# Altium schematic symbol library Max_lib.SchLib: 44 symbols
Pins are listed as number, name and electrical type; pins without a type are passive.

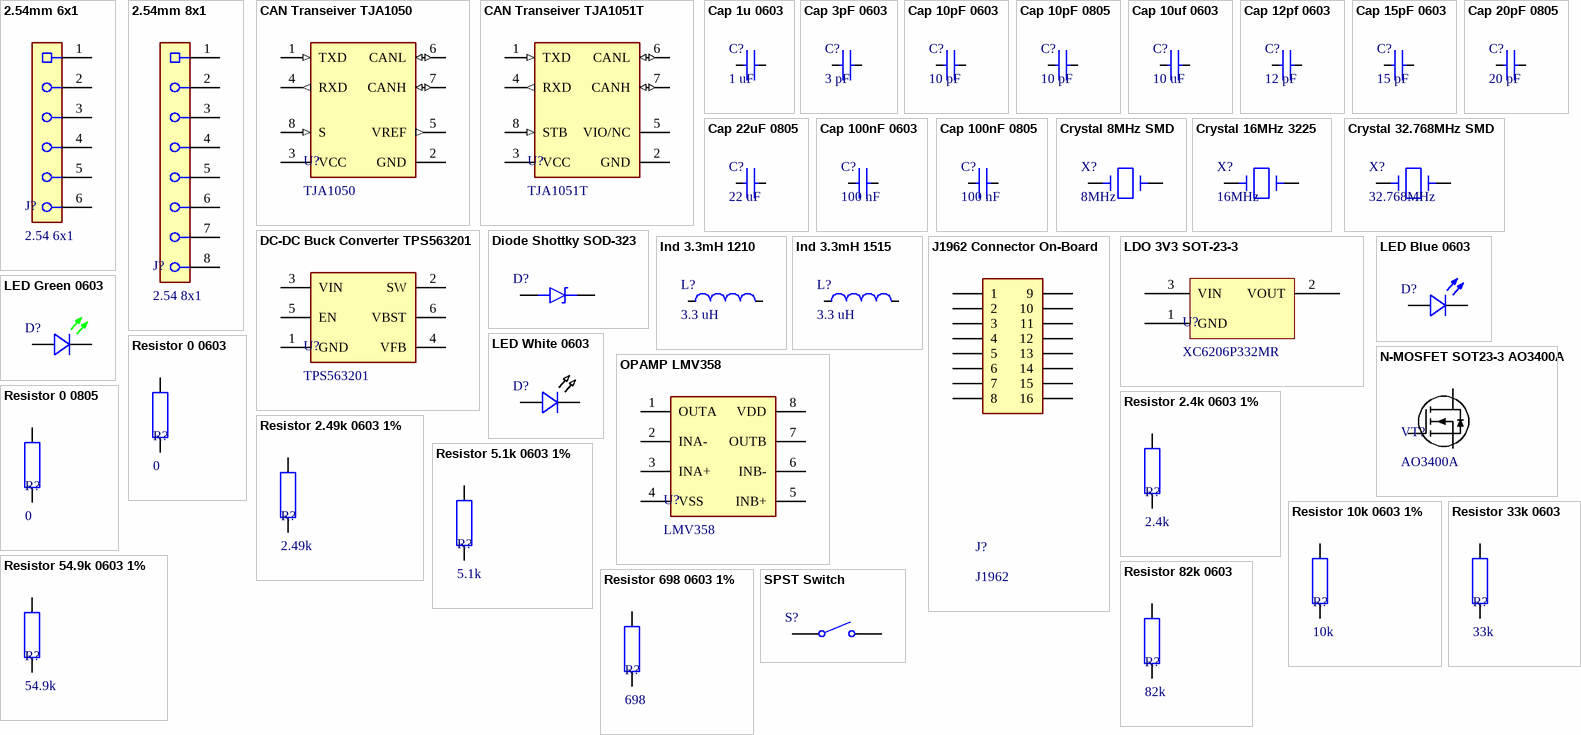
[diagram p0: symbols 2.54mm 6x1 to SPST Switch]

## 2.54mm 6x1
designator J?, comment 2.54 6x1
footprint PLS-6x1
pins: 1, 2, 3, 4, 5, 6

## 2.54mm 8x1
designator J?, comment 2.54 8x1
footprint PLS-8X1
pins: 1, 2, 3, 4, 5, 6, 7, 8

## CAN Transeiver TJA1050
designator U?, comment TJA1050
TJA1050 CAN Transeiver up to 1 Mbaud/s; Part Number: TJA1050T/CM,118; ComponentLink1Description: Datasheet; ComponentLink1URL: https://datasheet.lcsc.com/lcsc/1809201810_NXP-Semicon-TJA1050T-CM-118_C6952.pdf
footprint SOIC-8
pins: 1 TXD (in), 2 GND (power), 3 VCC (power), 4 RXD (out), 5 VREF (out), 6 CANL (io), 7 CANH (io), 8 S (in)

## CAN Transeiver TJA1051T
designator U?, comment TJA1051T
TJA1051T CAN Transeiver up to 5 Mbaud/s; Part Number: TJA1051T,118; ComponentLink1Description: Datasheet; ComponentLink1URL: https://datasheet.lcsc.com/lcsc/1809192316_NXP-Semicon-TJA1051T-118_C18387.pdf
footprint SOIC-8
pins: 1 TXD (in), 2 GND (power), 3 VCC (power), 4 RXD (out), 5 VIO/NC, 6 CANL (io), 7 CANH (io), 8 STB (in)

## Cap 1u 0603
designator C?, comment 1 uF
25V 1uF X5R ±10% 0603 Multilayer Ceramic Capacitors MLCC; Part Number: CC0603KRX5R8BB105
footprint 0603 SMD CAP
pins: 1, 2

## Cap 3pF 0603
designator C?, comment 3 pF
50V 3pF NP0 0.25pF 0603 Multilayer Ceramic Capacitors MLCC; Part Number: CC0603JRNPO9BN100
footprint 0603 SMD CAP
pins: 1, 2

## Cap 10pF 0603
designator C?, comment 10 pF
50V 10pF NP0 ±5% 0603 Multilayer Ceramic Capacitors MLCC; Part Number: CC0603JRNPO9BN100
footprint 0603 SMD CAP
pins: 1, 2

## Cap 10pF 0805
designator C?, comment 10 pF
Part Number: CC0805JRNPO9BN100
footprint 0805 SMD Cap
pins: 1, 2

## Cap 10uf 0603
designator C?, comment 10 uF
25V 10uF X5R ±20% 0603 Multilayer Ceramic Capacitors; Part Number: CL10A106MA8NRNC
footprint 0603 SMD CAP
pins: 1, 2

## Cap 12pf 0603
designator C?, comment 12 pF
Part Number: CC0603JRNPO9BN120
footprint 0603 SMD CAP
pins: 1, 2

## Cap 15pF 0603
designator C?, comment 15 pF
50V 15pF NP0 ±5% 0603 Multilayer Ceramic Capacitors MLCC; Part Number: CC0603JRNPO9BN100
footprint 0603 SMD CAP
pins: 1, 2

## Cap 20pF 0805
designator C?, comment 20 pF
Part Number: CC0805FRNPO9BN200
footprint 0805 SMD Cap
pins: 1, 2

## Cap 22uF 0805
designator C?, comment 22 uF
25V 22uF X5R ±20% 0805 Multilayer Ceramic Capacitors; Part Number: CL21A226MAYNNNE
footprint 0805 SMD Cap
pins: 1, 2

## Cap 100nF 0603
designator C?, comment 100 nF
25V 100nF X7R ±10% 0603 Multilayer Ceramic Capacitors MLCC; Part Number: CL10B104KA8NNNC; ComponentLink1Description: LCSC; ComponentLink1URL: https://lcsc.com/product-detail/Multilayer-Ceramic-Capacitors-MLCC-SMD-SMT_Samsung-Electro-Mechanics-CL10B104KA8NNNC_C1590.html
footprint 0603 SMD CAP
pins: 1, 2

## Cap 100nF 0805
designator C?, comment 100 nF
50V 100nF X7R ±10% 0805 Multilayer Ceramic Capacitors MLCC; Part Number: 0805B104K500NT
footprint 0805 SMD Cap
pins: 1, 2

## Crystal 8MHz SMD
designator X?, comment 8MHz
Crystal 8MHz 10pf 250Ohm; Part Number: TAXM8M4RDBCCT2T; ComponentLink1Description: Datasheet; ComponentLink1URL: https://datasheet.lcsc.com/lcsc/1912111437_TAE-Zhejiang-Abel-Elec-TAXM8M4RDBCCT2T_C400090.pdf
footprint 3225 SMD Crystal
pins: 1, 3

## Crystal 16MHz 3225
designator X?, comment 16MHz
Crystal 16MHz 12pf; ComponentLink1Description: ChipDip; ComponentLink1URL: https://www.chipdip.ru/product0/8010531849
footprint 3225 SMD Crystal
pins: 1, 3

## Crystal 32.768MHz SMD
designator X?, comment 32.768MHz
32.768kHz 6pF 70kΩ ±20ppm -40℃~+85℃ SMD3215-2P Crystals ROHS; Part Number: NX3215SA-32.768K-STD-MUA-14; ComponentLink1Description: Datasheet; ComponentLink1URL: https://datasheet.lcsc.com/lcsc/1810171130_NDK-NX3215SA-32-768K-STD-MUA-14_C156244.pdf
footprint 3215 SMD CRYSTAL
pins: 1, 2

## DC-DC Buck Converter TPS563201
designator U?, comment TPS563201
Step-down type -40℃~+125℃@(TJ) 1 Step-down Adjustable 0.768V~7V 3A 4.5V~17V 580kHz SOT-23-THIN-6; Part Number: TPS563201DDCR; ComponentLink1Description: Datasheet; ComponentLink1URL: https://www.ti.com/lit/ds/symlink/tps563201.pdf?ts=1668072977388
footprint SOT23-6L
pins: 1 GND, 2 SW, 3 VIN, 4 VFB, 5 EN, 6 VBST

## Diode Shottky SOD-323
designator D?
20V 450mV@1A 1A SOD-323 Schottky Barrier Diodes; Part Number: B5817WS; ComponentLink1Description: LCSC; ComponentLink1URL: https://lcsc.com/product-detail/Schottky-Barrier-Diodes-SBD_Shandong-Jingdao-Microelectronics-B5817WS_C123899.html
footprint SOD-323
pins: 1, 2

## Ind 3.3mH 1210
designator L?, comment 3.3 uH
1.55A 3.3uH ±30% 1.9A 100mΩ 1210 Inductors (SMD) ROHS; Part Number: LQH32PN3R3NNCL; ComponentLink1Description: Datasheet; ComponentLink1URL: https://datasheet.lcsc.com/lcsc/2108040830_Murata-Electronics-LQH32PN3R3NNCL_C2044639.pdf
footprint 1210 Inductor SMD
pins: 1, 2

## Ind 3.3mH 1515
designator L?, comment 3.3 uH
2.2A 3.3uH ±20% 2.8A 102mΩ SMD-2P,4x4mm Inductors; Part Number: FDSD0412-H-3R3M=P3; ComponentLink1Description: Datasheet; ComponentLink1URL: https://datasheet.lcsc.com/lcsc/2007281833_Murata-Electronics-FDSD0412-H-3R3M-P3_C560044.pdf
footprint 1515 (4040) SMD Inductor
pins: 1, 2

## J1962 Connector On-Board
designator J?, comment J1962
footprint Holes 2.54 2x8
pins: 1, 2, 3, 4, 5, 6, 7, 8, 9, 10, 11, 12, 13, 14, 15, 16

## LDO 3V3 SOT-23-3
designator U?, comment XC6206P332MR
40dB@(1kHz) 100mA 240mV@(50mA) Fixed 3.3V~3.3V Positive 1 8V SOT-23 Linear Voltage Regulators; Part Number: XC6206P332MR; ComponentLink1Description: Datasheet; ComponentLink1URL: https://static.chipdip.ru/lib/848/DOC018848972.pdf
footprint SOT23-3
pins: 1 GND, 2 VOUT, 3 VIN

## LED Blue 0603
designator D?
25mA Green -30℃~+85℃ Positive post Blue 120° 80mW 0603; Part Number: XL-1608BGWC-06; ComponentLink1Description: Datasheet; ComponentLink1URL: https://datasheet.lcsc.com/lcsc/2211030000_XINGLIGHT-XL-1608BGWC-06_C965809.pdf
footprint 0603 SMD LED
pins: 1, 2

## LED Green 0603
designator D?
20mA 518nm Colorless transparence -40℃~+85℃ 520nm~535nm Emerald 120° 110mW 0603; Part Number: 19-217/GHC-YR1S2/3T; ComponentLink1Description: Datasheet; ComponentLink1URL: https://datasheet.lcsc.com/lcsc/1811101510_Everlight-Elec-19-217-GHC-YR1S2-3T_C72043.pdf
footprint 0603 SMD LED
pins: 1, 2

## LED White 0603
designator D?
5mA Yellow -40℃~+85℃ White light 120° 100mW 0603 Light Emitting Diodes (LED) ROHS; Part Number: SZYY0603W; ComponentLink1Description: Datasheet; ComponentLink1URL: https://datasheet.lcsc.com/lcsc/1912111437_Yongyu-Photoelectric-SZYY0603W_C434422.pdf
footprint 0603 SMD LED
pins: 1, 2

## N-MOSFET SOT23-3 AO3400A
designator VT?, comment AO3400A
ComponentLink1Description: Datasheet; ComponentLink1URL: https://static.chipdip.ru/lib/825/DOC012825288.pdf; Part Number: AO3400A
footprint SOT23-3
pins: 1 Gate, 2 Source, 3 Drain

## OPAMP LMV358
designator U?, comment LMV358
Part Number: LMV358IDR; ComponentLink1Description: Datasheet; ComponentLink1URL: https://datasheet.lcsc.com/lcsc/2207191730_UMW-Youtai-Semiconductor-Co---Ltd--LMV358IDR_C3008587.pdf
footprint SOP8
pins: 1 OUTA, 2 INA-, 3 INA+, 4 VSS, 5 INB+, 6 INB-, 7 OUTB, 8 VDD

## Resistor 0 0603
designator R?, comment 0
Thick Film Resistors -55℃~+155℃ 0Ω 0603 Chip Resistor; Part Number: FRC0603P000 TS; ComponentLink1Description: LCSC; ComponentLink1URL: https://lcsc.com/product-detail/Chip-Resistor-Surface-Mount_FOJAN-FRC0603P000-TS_C2907080.html
footprint 0603 SMD Res
pins: 1, 2

## Resistor 0 0805
designator R?, comment 0
Resistor 0 0805; Part Number: RC0805FR-070RL; ComponentLink1Description: ChipDip; ComponentLink1URL: https://www.chipdip.ru/product0/8002021385
footprint 0805 SMD Res
pins: 1, 2

## Resistor 2.4k 0603 1%
designator R?, comment 2.4k
100mW Thick Film Resistors 75V ±100ppm/℃ ±1% -55℃~+155℃ 2.4kΩ 0603 Chip Resistor; Part Number: RC0603FR-072K4L
footprint 0603 SMD Res
pins: 1, 2

## Resistor 2.49k 0603 1%
designator R?, comment 2.49k
Resistor 2.49k 0603 1%; Part Number: RC0603FR-072K49L
footprint 0603 SMD Res
pins: 1, 2

## Resistor 5.1k 0603 1%
designator R?, comment 5.1k
Resistor 5.1k 0603 1%; Part Number: RC0603FR-075K1L; ComponentLink1Description: ChipDip; ComponentLink1URL: https://www.chipdip.ru/product/0.1w-0603-5.1-kom-1
footprint 0603 SMD Res
pins: 1, 2

## Resistor 10k 0603 1%
designator R?, comment 10k
Resistor 10k 0603 1%; Part Number: RC0603FR-0710KL
footprint 0603 SMD Res
pins: 1, 2

## Resistor 33k 0603
designator R?, comment 33k
100mW Thin Film Resistor 75V ±25ppm/℃ ±1% -55℃~+155℃ 33kΩ 0603 Chip Resistor; Part Number: ARG03FTC3302; ComponentLink1Description: LCSC; ComponentLink1URL: https://lcsc.com/product-detail/Chip-Resistor-Surface-Mount_Viking-Tech-ARG03FTC3302_C217971.html
footprint 0603 SMD Res
pins: 1, 2

## Resistor 54.9k 0603 1%
designator R?, comment 54.9k
100mW Thick Film Resistors 75V ±100ppm/℃ ±1% -55℃~+155℃ 54.9kΩ 0603; Part Number: RC0603FR-0754K9L; ComponentLink1Description: LCSC; ComponentLink1URL: https://lcsc.com/product-detail/Chip-Resistor-Surface-Mount_YAGEO-RC0603FR-0754K9L_C185321.html
footprint 0603 SMD Res
pins: 1, 2

## Resistor 82k 0603
designator R?, comment 82k
100mW Thick Film Resistors 50V ±100ppm/℃ ±1% -55℃~+155℃ 82kΩ 0603 Chip Resistor; Part Number: FRC0603F8202TS; ComponentLink1Description: LCSC; ComponentLink1URL: https://lcsc.com/product-detail/Chip-Resistor-Surface-Mount_FOJAN-FRC0603F8202TS_C2907072.html
footprint 0603 SMD Res
pins: 1, 2

## Resistor 698 0603 1%
designator R?, comment 698
100mW Thick Film Resistors 75V ±100ppm/℃ ±1% -55℃~+155℃ 698Ω 0603 Chip Resistor; Part Number: AC0603FR-07698RL; ComponentLink1Description: LCSC; ComponentLink1URL: https://lcsc.com/product-detail/Chip-Resistor-Surface-Mount_YAGEO-AC0603FR-07698RL_C144640.html
footprint 0603 SMD Res
pins: 1, 2

## SPST Switch
designator S?
Part Number: B3U-1000P; ComponentLink1Description: Datasheet; ComponentLink1URL: https://components.omron.com.cn/sites/components.omron.com.cn/files/datasheet_pdf/A162-E1-CN.pdf
footprint B3U-1000P
pins: 1, 2

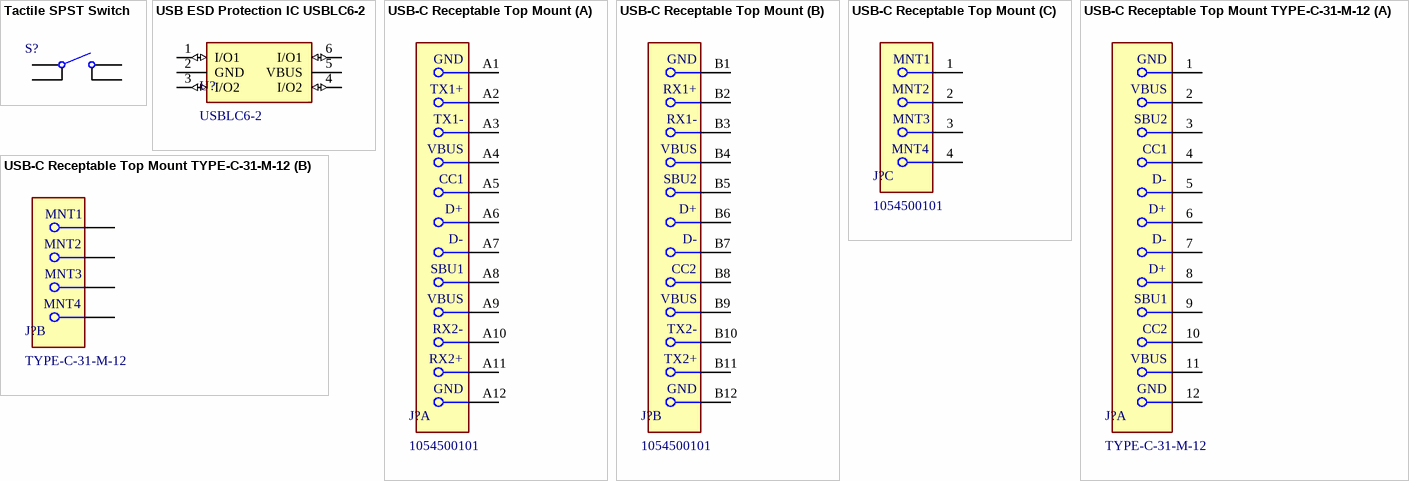
[diagram p1: symbols Tactile SPST Switch to USB-C Receptable Top Mount TYPE-C-31-M-12]

## Tactile SPST Switch
designator S?
Part Number: YTSA016C0254004B; ComponentLink1Description: Datasheet; ComponentLink1URL: https://datasheet.lcsc.com/lcsc/2106061735_DGBZ-YTSA016C0254004B_C2764970.pdf
footprint Tactile Switch 4.2x3.4
pins: 1, 2, 3, 4

## USB ESD Protection IC USBLC6-2
designator U?, comment USBLC6-2
Part Number: USBLC6-2SC6
footprint SOT23-6L
pins: 1 I/O1 (io), 2 GND (power), 3 I/O2 (io), 4 I/O2 (io), 5 VBUS (power), 6 I/O1 (io)

## USB-C Receptable Top Mount
designator J?, comment 1054500101
Universal Serial Bus (USB) Shielded I/O Receptacle, Type C, Right-Angle, Top Mount, Surface Mount, Gold (Au) Flash over 0.76µm Palladium Nickel Plating; ComponentLink1Description: Datasheet; ComponentLink1URL: https://www.molex.com/webdocs/datasheets/pdf/en-us/1054500101_IO_CONNECTORS.pdf; Pin Count: 24; Part Number: 1054500101
footprint 1054500101 (Molex Type-C Top-Mount Footprint)
part A pins: A1, A2, A3, A4, A5, A6, A7, A8, A9, A10, A11, A12
part B pins: B1, B2, B3, B4, B5, B6, B7, B8, B9, B10, B11, B12
part C pins: 1, 2, 3, 4
part A text: GND; TX1+; TX1-; VBUS; CC1; D+; D-; SBU1; RX2-; RX2+
part B text: GND; RX1+; RX1-; VBUS; SBU2; D+; D-; CC2; TX2-; TX2+
part C text: MNT1; MNT2; MNT3; MNT4

## USB-C Receptable Top Mount TYPE-C-31-M-12
designator J?, comment TYPE-C-31-M-12
5A 1 16 Female Type-C SMD USB Connectors ROHS; ComponentLink1Description: Datasheet; ComponentLink1URL: https://datasheet.lcsc.com/lcsc/2205251630_Korean-Hroparts-Elec-TYPE-C-31-M-12_C165948.pdf; Pin Count: 12; Part Number: TYPE-C-31-M-12
footprint TYPE-C-31-M-12
part A pins: 1, 2, 3, 4, 5, 6, 7, 8, 9, 10, 11, 12
part B pins: 13, 14, 15, 16
part A text: GND; VBUS; SBU2; CC1; D-; D+; SBU1; CC2
part B text: MNT1; MNT2; MNT3; MNT4